# Altium footprint library Balun_AnarenB0322J5050AHF_6-PIN_SMD.PcbLib: 1 footprints
Each footprint in its own frame and in the unit in brackets; x right, y up, seen from the top. Pads: shape width x height; smd on the part's side, far side on the other; paste and mask are expansions set on the pad; w line width, h text height; cw(c..) or ccw(c..) is an arc to the next point about the centre after c.
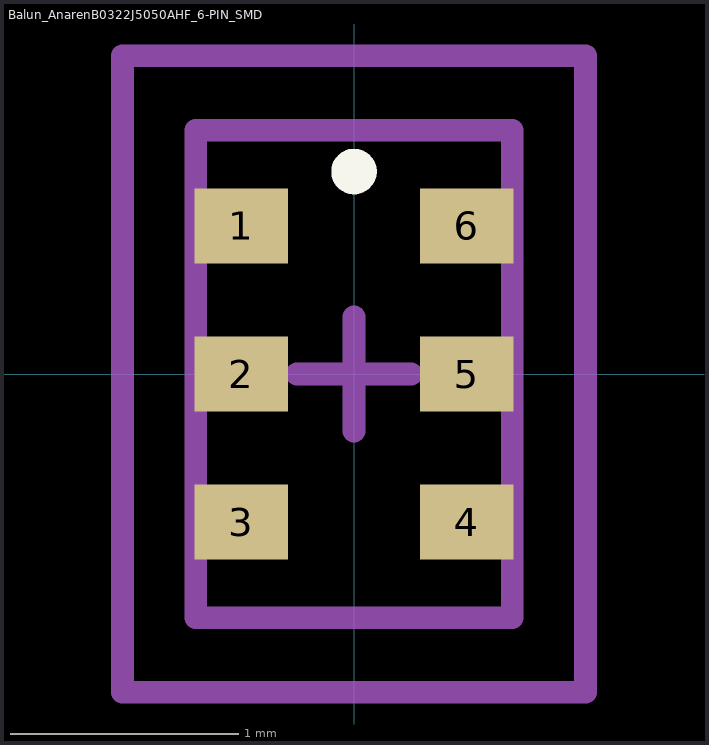
[diagram p0: the footprint, top view; thin cyan lines are the x and y axes]

## Balun_AnarenB0322J5050AHF_6-PIN_SMD [mm]
height 0.78
pads (6):
  rect 0.41x0.33 smd: 1(-0.495,0.65) 2(-0.495,0) 3(-0.495,-0.65) 4(0.495,-0.65) 5(0.495,0) 6(0.495,0.65)
Top Overlay:
  circle w0.1: c0,0.889 r0.05
Mechanical 13:
  lines w0.1: -0.695,-1.07 -0.695,1.07 0.695,1.07 0.695,-1.07 -0.695,-1.07
Mechanical 15:
  lines w0.1: -0.25,0 0.25,0 ; 0,-0.25 0,0.25 ; -1.016,-1.397 -1.016,1.397 1.016,1.397 1.016,-1.397 -1.016,-1.397
3D body: height 0.78, standoff 0, extent -0.695,-1.07 0.695,1.07